# Altium schematic symbol library TPS43061RTER.Schlib: 1 symbol
Pins are listed as number, name and electrical type; pins without a type are passive.

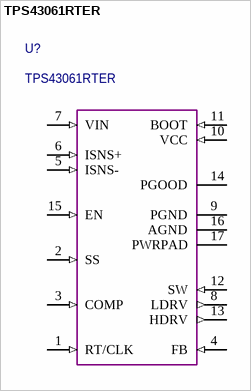
[diagram p0: symbol TPS43061RTER]

## TPS43061RTER
designator U?
simulation model TPS43061 (Model Description)
pins: 1 RT/CLK (in), 2 SS (in), 3 COMP (in), 4 FB (in), 5 ISNS- (in), 6 ISNS+ (in), 7 VIN (in), 8 LDRV (out), 9 PGND, 10 VCC (in), 11 BOOT (in), 12 SW (in), 13 HDRV (out), 14 PGOOD (oc), 15 EN (in), 16 AGND, 17 PWRPAD